# Altium integrated library Optoelectronics.IntLib: 12 symbols
Pins are listed as number, name and electrical type; pins without a type are passive.

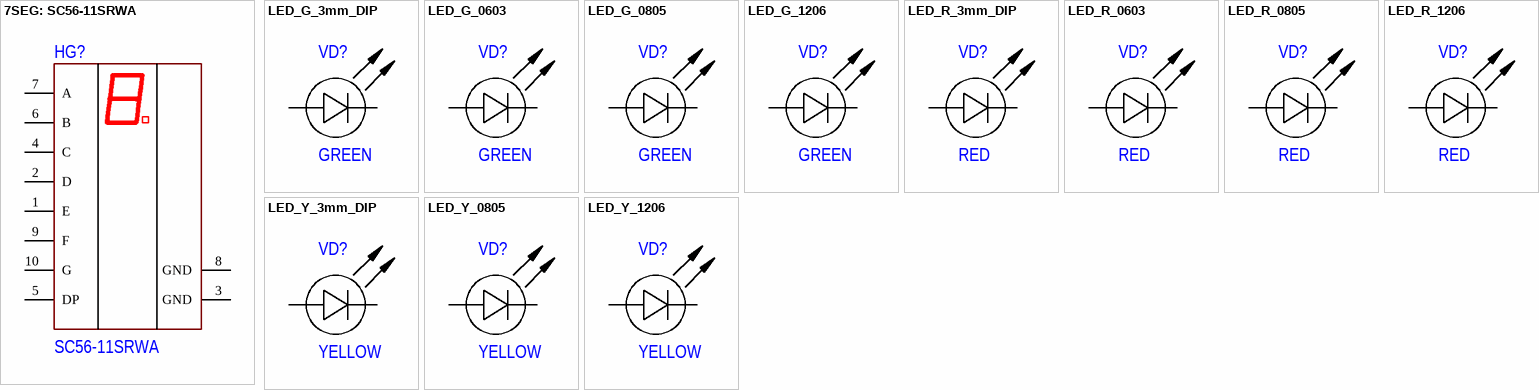
[diagram p0: symbols 7SEG: SC56-11SRWA to LED_Y_1206]

## 7SEG: SC56-11SRWA
designator HG?, comment SC56-11SRWA
Manufacturer: Kingbright; Note: Common cathode; PartNumber: SC56-11SRWA
footprint SC56-11SRWA
pins: 1 E, 2 D, 3 GND, 4 C, 5 DP, 6 B, 7 A, 8 GND, 9 F, 10 G

## LED_G_3mm_DIP
designator VD?, comment GREEN
Note: GREEN
footprint LED3MM_G
pins: 1 A, 2 C

## LED_G_0603
designator VD?, comment GREEN
Note: GREEN
footprint 0603LG
pins: 1 A, 2 C

## LED_G_0805
designator VD?, comment GREEN
Note: GREEN
footprint 0805LG
pins: 1 A, 2 C

## LED_G_1206
designator VD?, comment GREEN
Note: GREEN
footprint 1206LG
pins: 1 A, 2 C

## LED_R_3mm_DIP
designator VD?, comment RED
Note: RED
footprint LED3MM_R
pins: 1 A, 2 C

## LED_R_0603
designator VD?, comment RED
Note: RED
footprint 0603LR
pins: 1 A, 2 C

## LED_R_0805
designator VD?, comment RED
Note: RED
footprint 0805LR
pins: 1 A, 2 C

## LED_R_1206
designator VD?, comment RED
Note: RED
footprint 1206LR
pins: 1 A, 2 C

## LED_Y_3mm_DIP
designator VD?, comment YELLOW
Note: YELLOW
footprint LED3MM_Y
pins: 1 A, 2 C

## LED_Y_0805
designator VD?, comment YELLOW
Note: YELLOW
footprint 0805LY
pins: 1 A, 2 C

## LED_Y_1206
designator VD?, comment YELLOW
Note: YELLOW
footprint 1206LY
pins: 1 A, 2 C